# Altium footprint library DIODE_SOD-123FL.PcbLib: 1 footprints
Each footprint in its own frame and in the unit in brackets; x right, y up, seen from the top. Pads: shape width x height; smd on the part's side, far side on the other; paste and mask are expansions set on the pad; w line width, h text height; cw(c..) or ccw(c..) is an arc to the next point about the centre after c.
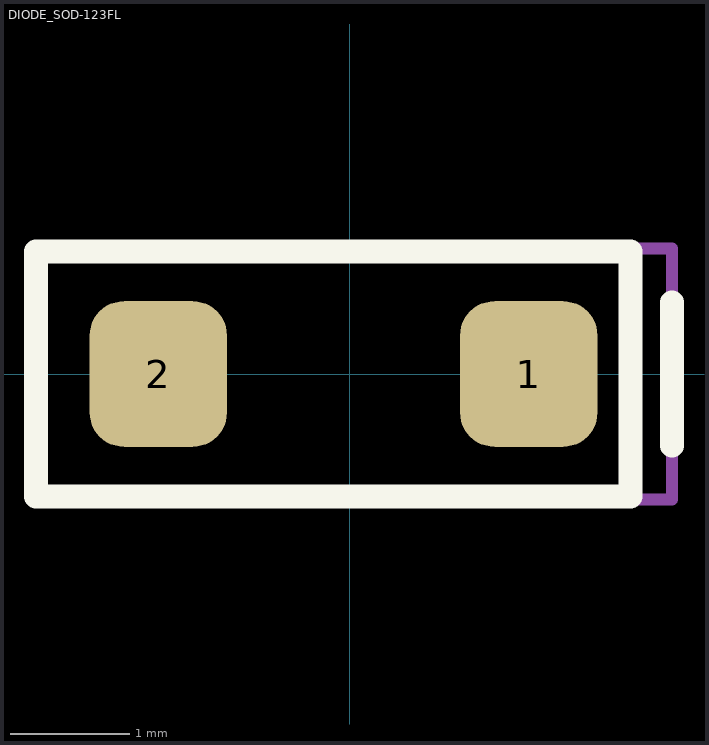
[diagram p0: the footprint, top view; thin cyan lines are the x and y axes]

## DIODE_SOD-123FL [mm]
pads (2):
  rrect50% 1.15x1.22 smd: 1(1.5,0) 2(-1.6,0)
Top Overlay:
  lines w0.2: 2.7,-0.6 2.7,0.6 ; -2.625,-1.025 -2.625,1.025 2.35,1.025 2.35,-1.025 -2.625,-1.025
Top Courtyard:
  lines w0.1: -2.625,-1.05 -2.625,1.05 2.7,1.05 2.7,-1.05 -2.625,-1.05
3D body "SS1060XFL-AU.stp": height 1, standoff 0, extent -1.85,-0.9 1.85,0.9